# Altium schematic symbol library CONN - TH_UART.SchLib: 1 symbol
Pins are listed as number, name and electrical type; pins without a type are passive.

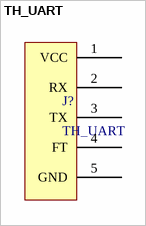
[diagram p0: symbol TH_UART]

## TH_UART
designator J?
footprint CONN - TH_UART
pins: 1 VCC, 2 RX, 3 TX, 4 FT, 5 GND